# EAGLE library part M.2_KEY-M (library Bauteile)
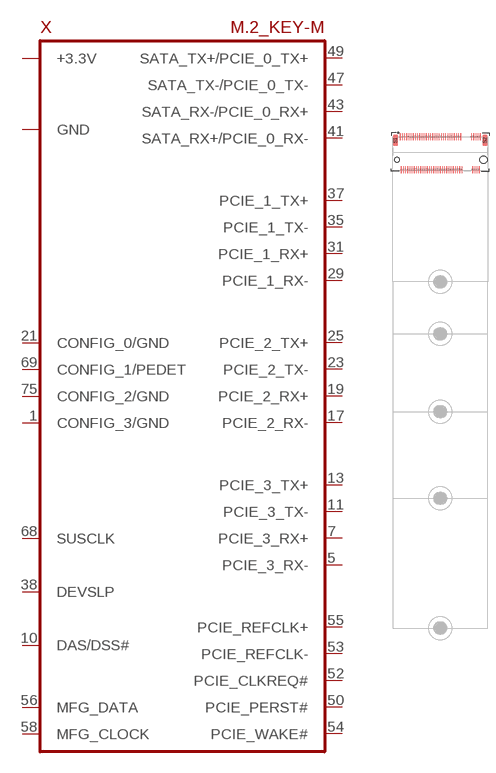
[diagram p123: symbol with the pads of M.2_KEY-M; footprint M.2_KEY-M]

Designator prefix X

## M.2_KEY-M  [M.2_KEY-M]
1  CONFIG_3/GND
2  +3.3V
3  GND
4  +3.3V
5  PCIE_3_RX-
7  PCIE_3_RX+
9  GND
10  DAS/DSS#
11  PCIE_3_TX-
12  +3.3V
13  PCIE_3_TX+
14  +3.3V
15  GND
16  +3.3V
17  PCIE_2_RX-
18  +3.3V
19  PCIE_2_RX+
21  CONFIG_0/GND
23  PCIE_2_TX-
25  PCIE_2_TX+
27  GND
29  PCIE_1_RX-
31  PCIE_1_RX+
33  GND
35  PCIE_1_TX-
37  PCIE_1_TX+
38  DEVSLP
39  GND
41  SATA_RX+/PCIE_0_RX-
43  SATA_RX-/PCIE_0_RX+
45  GND
47  SATA_TX-/PCIE_0_TX-
49  SATA_TX+/PCIE_0_TX+
50  PCIE_PERST#
51  GND
52  PCIE_CLKREQ#
53  PCIE_REFCLK-
54  PCIE_WAKE#
55  PCIE_REFCLK+
56  MFG_DATA
57  GND
58  MFG_CLOCK
68  SUSCLK
69  CONFIG_1/PEDET
70  +3.3V
71  GND
72  +3.3V
73  GND
74  +3.3V
75  CONFIG_2/GND
S1  GND
S2  GND

## Footprint M.2_KEY-M (pad centres in mm)
smd 0.3 x 1.55: 1 -9.25,5.275; 2 -9,-2.275; 3 -8.75,5.275; 4 -8.5,-2.275; 5 -8.25,5.275; 6 -8,-2.275; 7 -7.75,5.275; 8 -7.5,-2.275; 9 -7.25,5.275; 10 -7,-2.275; 11 -6.75,5.275; 12 -6.5,-2.275; 13 -6.25,5.275; 14 -6,-2.275; 15 -5.75,5.275; 16 -5.5,-2.275; 17 -5.25,5.275; 18 -5,-2.275; 19 -4.75,5.275; 20 -4.5,-2.275; 21 -4.25,5.275; 22 -4,-2.275; 23 -3.75,5.275; 24 -3.5,-2.275; 25 -3.25,5.275; 26 -3,-2.275; 27 -2.75,5.275; 28 -2.5,-2.275; 29 -2.25,5.275; 30 -2,-2.275; 31 -1.75,5.275; 32 -1.5,-2.275; 33 -1.25,5.275; 34 -1,-2.275; 35 -0.75,5.275; 36 -0.5,-2.275; 37 -0.25,5.275; 38 0,-2.275; 39 0.25,5.275; 40 0.5,-2.275; 41 0.75,5.275; 42 1,-2.275; 43 1.25,5.275; 44 1.5,-2.275; 45 1.75,5.275; 46 2,-2.275; 47 2.25,5.275; 48 2.5,-2.275; 49 2.75,5.275; 50 3,-2.275; 51 3.25,5.275; 52 3.5,-2.275; 53 3.75,5.275; 54 4,-2.275; 55 4.25,5.275; 56 4.5,-2.275; 57 4.75,5.275; 58 5,-2.275; 67 7.25,5.275; 68 7.5,-2.275; 69 7.75,5.275; 70 8,-2.275; 71 8.25,5.275; 72 8.5,-2.275; 73 8.75,5.275; 74 9,-2.275; 75 9.25,5.275
smd 1.2 x 2.75: S1 -10.35,4.5; S2 10.35,4.5
hole 1.15 at -10,0
hole 1.65 at 10,0